# Altium schematic symbol library SCH - MISC - UZ_LOGO.SCHLIB: 1 symbol
Pins are listed as number, name and electrical type; pins without a type are passive.

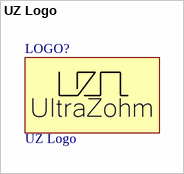
[diagram p0: symbol UZ Logo]

## UZ Logo
designator LOGO?  (no BOM)
UltraZohm Logo on PCB; Created: Jan2021_Liegmann; Value: UZ Logo